# Altium footprint library MyLib.PcbLib: 92 footprints (part 6 of 6)
Each footprint in its own frame and in the unit in brackets; x right, y up, seen from the top. Pads: shape width x height; smd on the part's side, far side on the other; paste and mask are expansions set on the pad; w line width, h text height; cw(c..) or ccw(c..) is an arc to the next point about the centre after c.
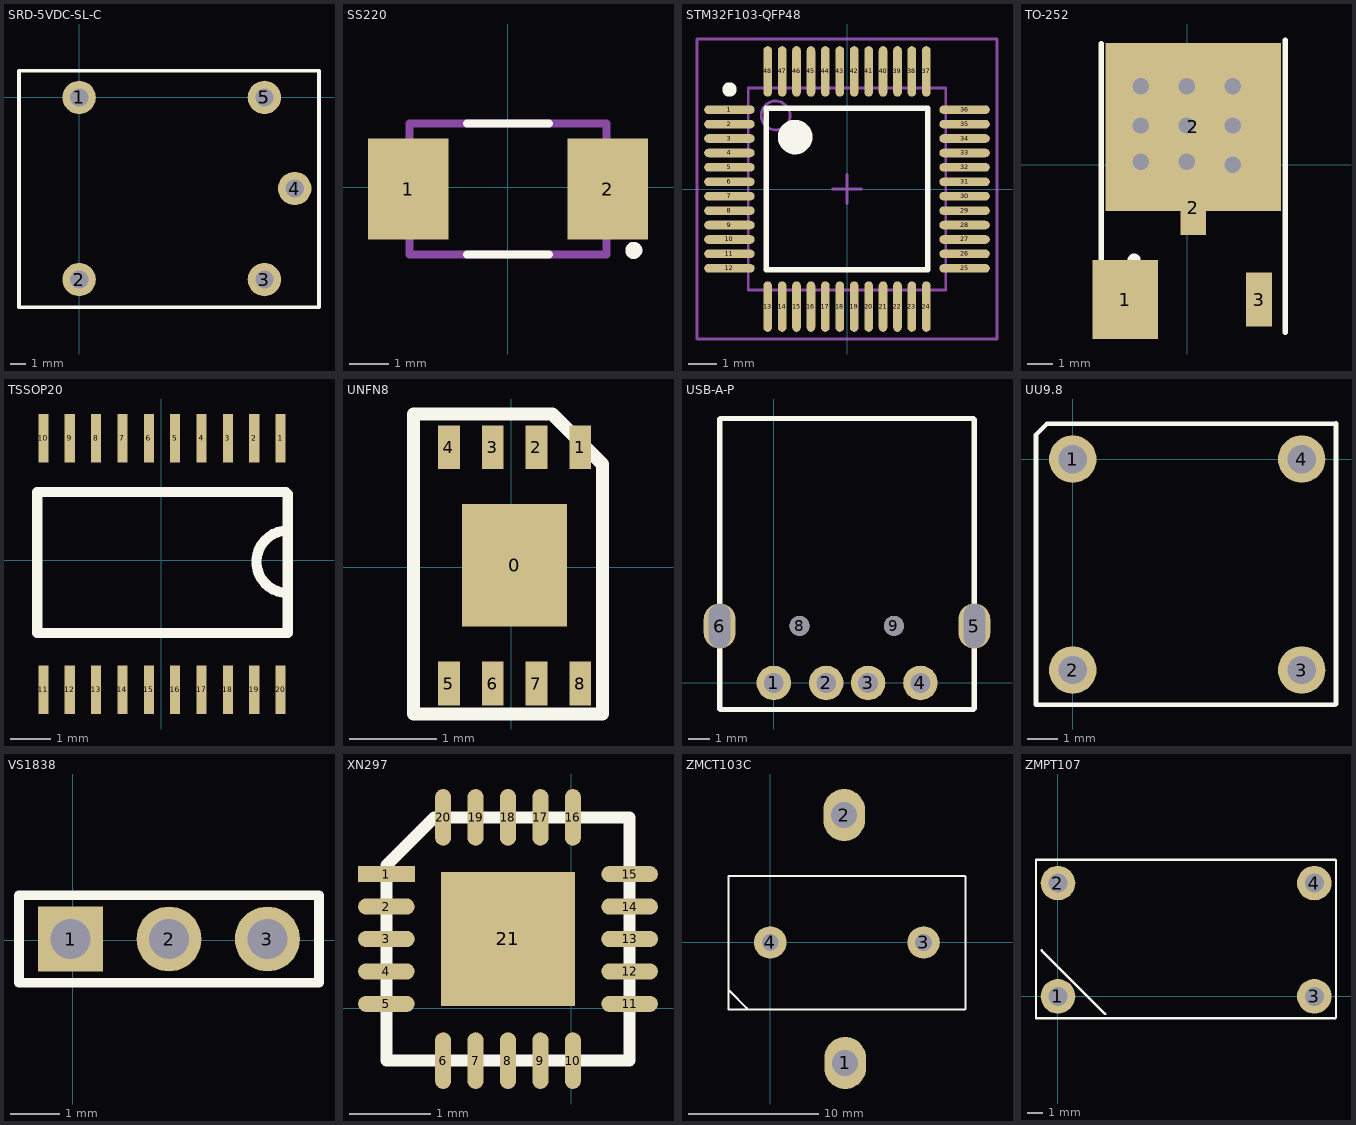
[diagram p5: the footprints below, top view; thin cyan lines are the x and y axes]

## SRD-5VDC-SL-C [mm]
pads (6):
  round 2.2 hole 1.2: 1(0,0) 2(0,-12) 3(12.2,-12) 4(14.2,-6) 5(12.2,0) 5(12.2,0)
Top Overlay:
  lines w0.254: -3.962,-13.818 -3.962,1.753 15.799,1.753 15.799,-13.818 -3.962,-13.818

## SS220 [mil]
pads (2):
  rect 80x100 smd: 1(-98.73,-1.64) 2(99.38,-1.64)
Top Overlay:
  circle w10: c125.33,-62.64 r3.5
  lines w7.87: -40.22,-66.6 40.88,-66.6 ; -40.22,63.32 40.88,63.32
Mechanical 7:
  lines w7.87: -97.7,-66.6 98.36,-66.6 98.36,63.32 -97.7,63.32 -97.7,-66.6
Mechanical 9:
  lines w1: -97.7,-66.6 98.36,-66.6 98.36,63.32 -97.7,63.32 -97.7,-66.6
3D body: height 86.61, standoff 0, extent 77.33,-57.64 91.33,54.36
3D body: height 43.31, standoff 0, extent -102.67,-34.64 -90.67,31.36
3D body: height 43.31, standoff 0, extent 91.33,-34.64 103.33,31.36
3D body: height 86.61, standoff 0, extent -90.67,-57.64 77.33,54.36

## STM32F103-QFP48 [mm]
height 1.6
pads (48):
  oval 1.75x0.3 smd: 1(-4.075,2.75) 2(-4.075,2.25) 3(-4.075,1.75) 4(-4.075,1.25) 5(-4.075,0.75) 6(-4.075,0.25) 7(-4.075,-0.25) 8(-4.075,-0.75) 9(-4.075,-1.25) 10(-4.075,-1.75) 11(-4.075,-2.25) 12(-4.075,-2.75) 25(4.075,-2.75) 26(4.075,-2.25) 27(4.075,-1.75) 28(4.075,-1.25) 29(4.075,-0.75) 30(4.075,-0.25) 31(4.075,0.25) 32(4.075,0.75) 33(4.075,1.25) 34(4.075,1.75) 35(4.075,2.25) 36(4.075,2.75)
  oval 0.3x1.75 smd: 13(-2.75,-4.075) 14(-2.25,-4.075) 15(-1.75,-4.075) 16(-1.25,-4.075) 17(-0.75,-4.075) 18(-0.25,-4.075) 19(0.25,-4.075) 20(0.75,-4.075) 21(1.25,-4.075) 22(1.75,-4.075) 23(2.25,-4.075) 24(2.75,-4.075) 37(2.75,4.075) 38(2.25,4.075) 39(1.75,4.075) 40(1.25,4.075) 41(0.75,4.075) 42(0.25,4.075) 43(-0.25,4.075) 44(-0.75,4.075) 45(-1.25,4.075) 46(-1.75,4.075) 47(-2.25,4.075) 48(-2.75,4.075)
Top Overlay:
  circle w0.6: c-1.8,1.8 r0.3
  circle w0.25: c-4.075,3.45 r0.125
  lines w0.2: -2.8,-2.8 2.8,-2.8 2.8,2.8 -2.8,2.8 -2.8,-2.8
Mechanical 13:
  circle w0.1: c-2.475,2.55 r0.5
  lines w0.1: -3.425,-3.5 3.425,-3.5 3.425,3.5 -3.425,3.5 -3.425,-3.5
Mechanical 15:
  lines w0.1: -0.5,0 0.5,0 ; 0,-0.5 0,0.5 ; -5.2,-5.2 5.2,-5.2 5.2,5.2 -5.2,5.2 -5.2,-5.2
3D body: height 1.6, standoff 1.4, extent -3.425,-3.5 3.425,3.5

## TO-252 [mm]
pads (4):
  rect 2.54x3.048 smd: 1(-2.403,-5.217)
  rect 6.8x6.5 smd: 2(0.23,1.46)
  rect 1x2.1 smd: 2(0.23,-1.661) 3(2.777,-5.217)
via -0.024,3.038 diameter 1.016 hole 0.635
via -0.024,1.514 diameter 1.016 hole 0.635
via -1.802,1.514 diameter 1.016 hole 0.635
via -0.024,0.117 diameter 1.016 hole 0.635
via 1.754,1.514 diameter 1.016 hole 0.635
via 1.754,-0.01 diameter 1.016 hole 0.635
via -1.802,0.117 diameter 1.016 hole 0.635
via 1.754,3.038 diameter 1.016 hole 0.635
via -1.802,3.038 diameter 1.016 hole 0.635
Top Overlay:
  circle w0.254: c-2.055,-3.69 r0.125
  lines w0.2: -3.326,-6.392 -3.326,4.689 ; 3.786,-6.487 3.786,4.816

## TSSOP20 [mm]
height 1.3
pads (20):
  rect 0.25x1.2 smd: 1(2.938,3.002) 2(2.288,3.002) 3(1.638,3.002) 4(0.988,3.002) 5(0.338,3.002) 6(-0.312,3.002) 7(-0.962,3.002) 8(-1.612,3.002) 9(-2.262,3.002) 10(-2.912,3.002) 11(-2.912,-3.198) 12(-2.262,-3.198) 13(-1.612,-3.198) 14(-0.962,-3.198) 15(-0.312,-3.198) 16(0.338,-3.198) 17(0.988,-3.198) 18(1.638,-3.198) 19(2.288,-3.198) 20(2.938,-3.198)
Top Overlay:
  lines w0.254: 3.113,-0.813 cw(c3.113,-0.043) 3.113,0.727 ; -3.062,-1.798 -3.062,1.677 3.063,1.677 3.113,1.627 3.113,-1.798 -3.062,-1.798

## UNFN8 [mm]
pads (9):
  rect 1.2x1.4 smd: 0(0.037,0.022)
  rect 0.25x0.5 smd: 1(0.787,1.372) 2(0.287,1.372) 3(-0.213,1.372) 4(-0.713,1.372) 5(-0.713,-1.328) 6(-0.213,-1.328) 7(0.287,-1.328) 8(0.787,-1.328)
Top Overlay:
  lines w0.152: -1.118,1.753 -1.118,-1.676 1.041,-1.676 1.041,1.181 0.47,1.753 -1.086,1.753

## USB-A-P [mil]
height 21.65
pads (8):
  round 65 hole 37: 1(0,0) 2(98.43,0) 3(177.17,0) 4(275.6,0)
  oval 60x85 hole 40 slot 82.68 at 90 deg: 5(376.93,107) 6(-101.73,107)
  round 37.4 hole 37.4: 8(48.5,107.28) 9(225.67,107.28)
Top Overlay:
  lines w10: -101.73,-48.27 -101.73,107 -101.73,495.27 ; -100,-50 373.6,-50 375,-50 ; -100,497 375,497 ; 376.93,-48.07 376.93,107 376.93,495.07

## UU9.8 [mil]
pads (4):
  round 62 hole 37: 1(0,0) 2(0,-275.59) 3(299.21,-275.59) 4(299.21,0)
Top Overlay:
  lines w6: 342,-321 -48,-321 -48,32 -34,46 -33,46 343,46 ; 344,-320 344,47

## VS1838 [mil]
pads (3):
  rect 52x52 hole 32: 1(-1.74,1)
  round 52 hole 32: 2(77,1) 3(155.74,1)
Top Overlay:
  lines w7.87: -43,-34 -43,36 197,36 197,-34 -43,-34

## XN297 [mm]
height 5.08
pads (21):
  rect 0.7x0.2 smd: 1(-2.277,1.652)
  oval 0.7x0.2 smd: 2(-2.277,1.252) 3(-2.277,0.852) 4(-2.277,0.452) 5(-2.277,0.052) 11(0.723,0.052) 12(0.723,0.452) 13(0.723,0.852) 14(0.723,1.252) 15(0.723,1.652)
  oval 0.2x0.7 smd: 6(-1.577,-0.648) 7(-1.177,-0.648) 8(-0.777,-0.648) 9(-0.377,-0.648) 10(0.023,-0.648) 16(0.023,2.352) 17(-0.377,2.352) 18(-0.777,2.352) 19(-1.177,2.352) 20(-1.577,2.352)
  rect 1.65x1.65 smd: 21(-0.777,0.852)
Top Overlay:
  lines w0.15: -2.277,-0.648 -2.277,1.762 -1.688,2.352 0.723,2.352 0.723,-0.648 -2.277,-0.648

## ZMCT103C [mm]
pads (4):
  oval 3.2x4 hole 2: 1(5.766,-9.271) 2(5.69,9.804)
  round 2.5 hole 1.3: 3(11.8,0) 4(0,0)
Top Overlay:
  lines w0.152: -3.2,-5.156 15,-5.156 ; -3.2,-5.145 -3.2,5.055 ; -3.2,5.1 15,5.1 ; -3.124,-3.734 -1.803,-5.055 ; 15.011,-5.12 15.011,5.08

## ZMPT107 [mm]
pads (4):
  round 2.2 hole 1.2: 1(0,0) 2(0,7.2) 3(16.3,0) 4(16.3,7.2)
Top Overlay:
  lines w0.152: -1.397,-1.389 -1.397,8.611 ; -1.372,8.687 17.628,8.687 ; -1.372,-1.397 17.628,-1.397 ; -1.041,2.921 2.997,-1.118 ; 17.678,-1.339 17.678,8.661